# Altium footprint library FSMIJ6.PcbLib: 1 footprints
Each footprint in its own frame and in the unit in brackets; x right, y up, seen from the top. Pads: shape width x height; smd on the part's side, far side on the other; paste and mask are expansions set on the pad; w line width, h text height; cw(c..) or ccw(c..) is an arc to the next point about the centre after c.
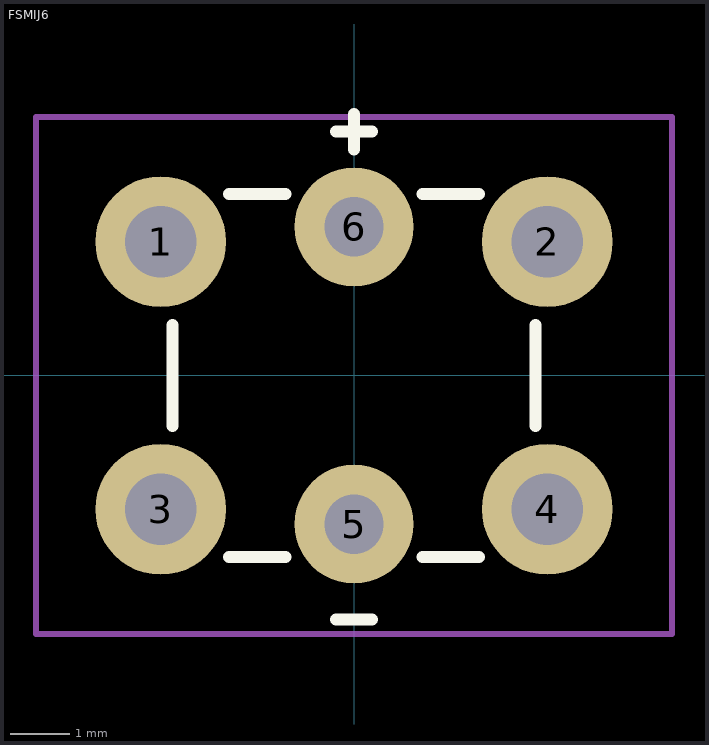
[diagram p0: the footprint, top view; thin cyan lines are the x and y axes]

## FSMIJ6 [mm]
pads (6):
  round 2.2 hole 1.2: 1(-3.25,2.25) 2(3.25,2.25) 3(-3.25,-2.25) 4(3.25,-2.25)
  round 2 hole 1: 5(0,-2.5) 6(0,2.5)
Top Overlay:
  lines w0.2: -3.05,-0.85 -3.05,0.85 ; -2.1,-3.05 -1.15,-3.05 ; -2.1,3.05 -1.15,3.05 ; -0.3,-4.1 0.3,-4.1 ; -0.3,4.1 0.3,4.1 ; 0,3.8 0,4.4 ; 1.15,-3.05 2.1,-3.05 ; 1.15,3.05 2.1,3.05 ; 3.05,-0.85 3.05,0.85
Top Courtyard:
  lines w0.1: -5.35,-4.35 -5.35,4.35 5.35,4.35 5.35,-4.35 -3.3,-4.35 -5.35,-4.35
3D body "c-3-2213818-7-b-3d.stp": height 7, standoff -5, extent -3.9,-3.05 3.9,3.05